# Altium footprint library Activos.PcbLib: 60 footprints (part 3 of 4)
Each footprint in its own frame and in the unit in brackets; x right, y up, seen from the top. Pads: shape width x height; smd on the part's side, far side on the other; paste and mask are expansions set on the pad; w line width, h text height; cw(c..) or ccw(c..) is an arc to the next point about the centre after c.
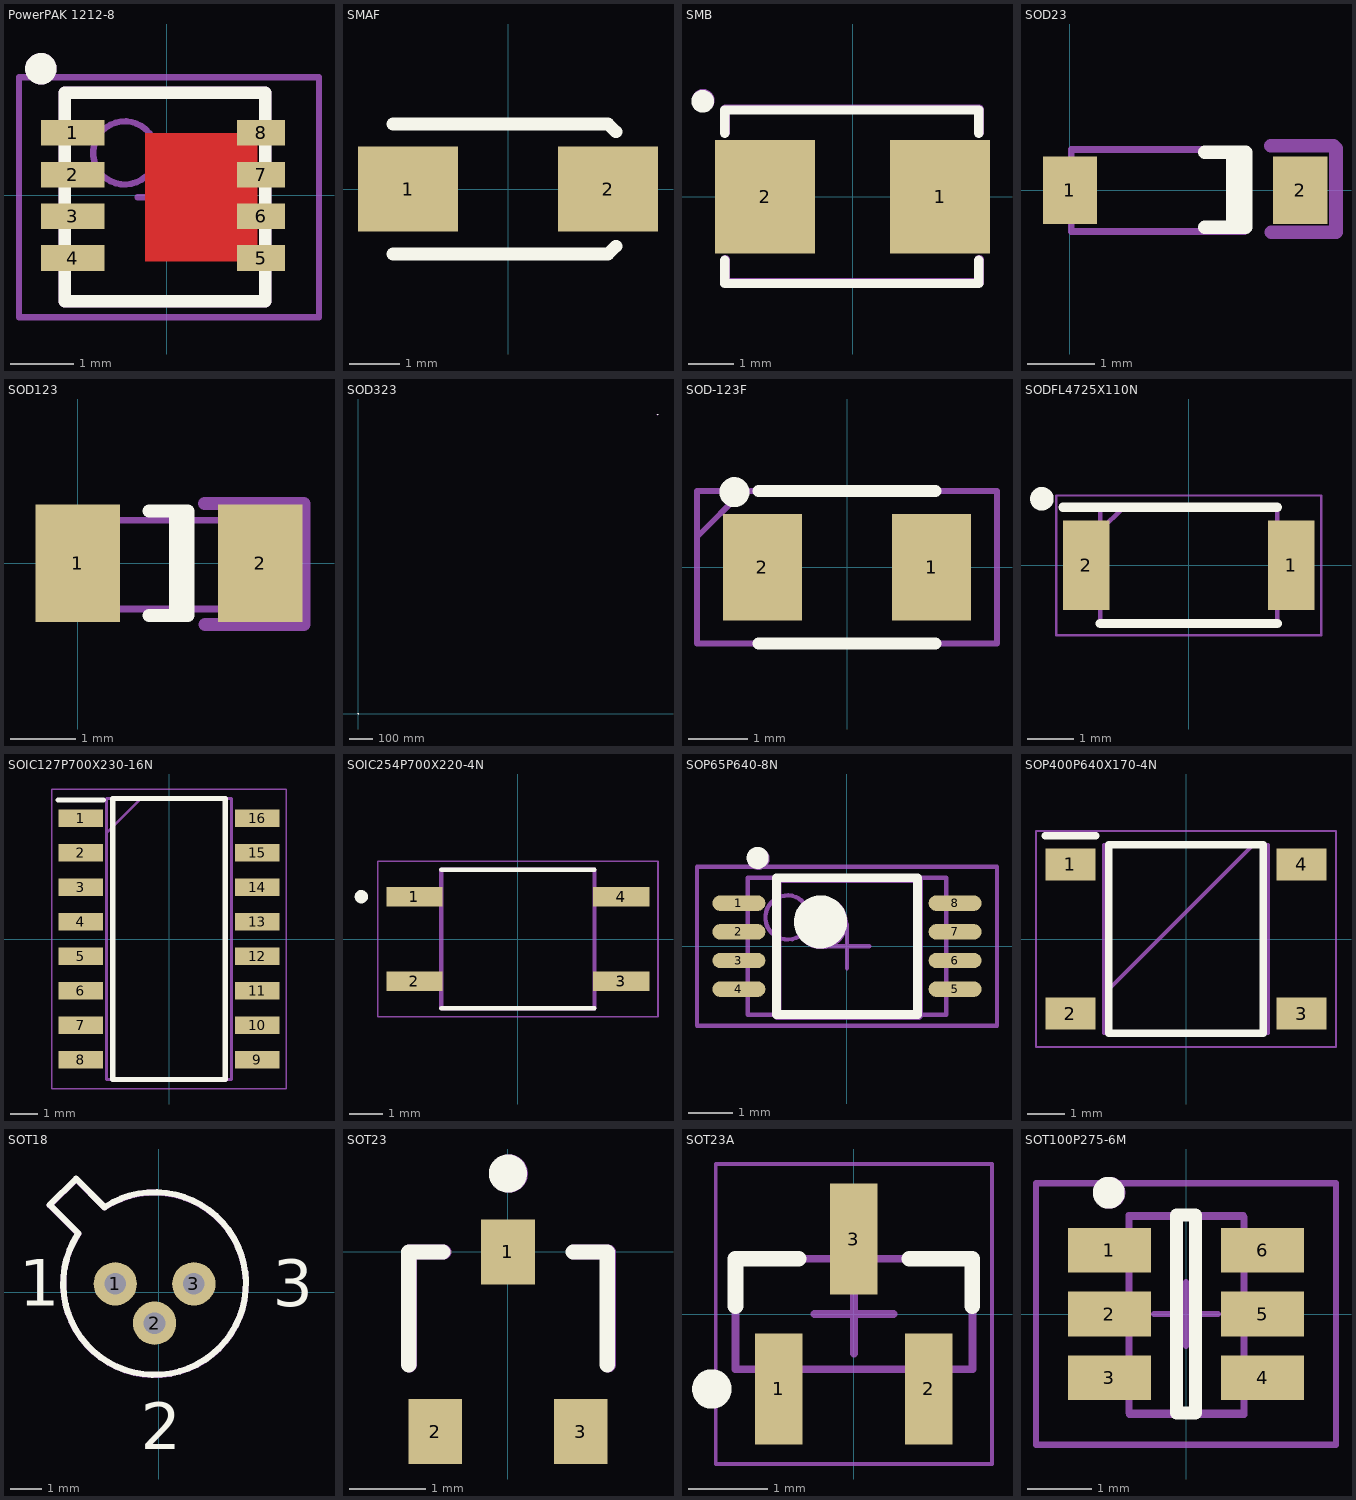
[diagram p2: the footprints below, top view; thin cyan lines are the x and y axes]

## PowerPAK 1212-8 [mm]
height 2.65
pads (8):
  rect 1x0.405 smd: 1(-1.49,0.99) 2(-1.49,0.33) 3(-1.49,-0.33) 4(-1.49,-0.99)
  rect 0.76x0.405 smd: 5(1.49,-0.99) 6(1.49,-0.33) 7(1.49,0.33) 8(1.49,0.99)
Top Layer:
  rectangle: -0.347,-1.042 1.431,0.99
Top Overlay:
  circle w0.25: c-1.996,2.006 r0.125
  lines w0.2: -1.617,-1.676 1.558,-1.676 1.558,1.624 -1.617,1.624 -1.617,-1.676
Mechanical 13:
  circle w0.1: c-0.667,0.674 r0.5
  lines w0.1: -1.617,-1.677 1.558,-1.677 1.558,1.625 -1.617,1.625 -1.617,-1.677
Mechanical 15:
  lines w0.1: -0.467,-0.026 0.533,-0.026 ; 0.033,-0.526 0.033,0.474 ; -2.342,-1.926 -2.342,1.874 2.408,1.874 2.408,-1.926 -2.342,-1.926
Mechanical 29:
  circle w0.25: c-1.996,2.006 r0.125
  lines w0.2: -1.617,-1.676 -1.617,1.624 1.558,1.624 1.558,-1.676 -1.617,-1.676
  text "'.Designator'" at -1.343,-0.172 h0.5
3D body "POWERPAK 1212-8.STEP": height 1.12, standoff 0, extent -1.552,-1.721 1.718,1.679

## SMAF [mm]
height 1
pads (2):
  rect 2x1.7 smd: 1(-2,0) 2(2,0)
Top Overlay:
  lines w0.254: -2.3,-1.3 2,-1.3 2.002,-1.3 2.159,-1.143 ; -2.3,1.3 2,1.3 2.002,1.3 2.159,1.143
3D body "User Library-DO-214AD.step": height 1, standoff 0, extent -2.35,-1.25 2.35,1.25

## SMB [mm]
pads (2):
  rect 2.2x2.5 smd: 1(1.925,0) 2(-1.925,0)
Top Overlay:
  circle w0.25: c-3.3,2.1 r0.125
  lines w0.2: -2.814,-1.397 -2.814,-1.905 2.774,-1.905 2.774,-1.397 ; -2.814,1.397 -2.814,1.905 2.774,1.905 2.774,1.397
Mechanical 29:
  circle w0.25: c-3.29,2.12 r0.125
  lines w0.2: -2.804,-1.377 -2.804,-1.885 2.784,-1.885 2.784,-1.377 ; -2.804,1.417 -2.804,1.925 2.784,1.925 2.784,1.417
  text "'.Designator'" at -2.49,-0.11 h0.5
3D body "DO-214AA(SMB).step": height 2.6, standoff -0.05, extent -2.694,-1.975 2.894,1.975

## SOD23 [mm]
pads (2):
  rect 0.8x1 smd: 1(0,0) 2(3.4,0)
Top Overlay:
  lines w0.2: 1.992,0.56 2.592,0.56 2.592,-0.54 ; 2.402,0.5 2.402,-0.55 1.992,-0.55 2.592,-0.55
Mechanical 29:
  lines w0.1: 0.02,-0.61 0.02,0.6 2.582,0.6 2.582,-0.61 0.02,-0.61
  lines w0.2: 2.964,0.657 3.89,0.657 3.927,0.62 3.927,-0.623 2.974,-0.623
3D body "SOD123.step": height 1.27, standoff 0, extent -0.18,-0.8 3.52,0.8

## SOD123 [mm]
pads (2):
  rect 1.3x1.8 smd: 1(0,0) 2(2.8,0)
Top Overlay:
  lines w0.2: 1.09,-0.799 1.69,-0.799 1.69,0.801 1.09,0.801 ; 1.5,-0.799 1.5,0.801
Mechanical 29:
  lines w0.1: -0.26,-0.7 -0.26,0.66 3.04,0.66 3.04,-0.7 -0.26,-0.7
  lines w0.2: 1.944,0.92 3.47,0.92 3.47,-0.94 1.954,-0.94
3D body "SOD123.step": height 1.27, standoff 0, extent -0.463,-0.776 3.237,0.824

## SOD323 [mm]
pads (4):
  rect 1x0.8 smd: A(1.3,0) A(1271.3,1270.01) K(-1.3,0) K(1268.7,1270.01)
Top Overlay:
  lines w0.203: -0.51,0.397 -0.28,0.397 ; -0.273,-0.4 -0.273,0.4 ; -0.27,-0.403 -0.04,-0.403 ; 1269.49,1270.407 1269.72,1270.407 ; 1269.727,1269.61 1269.727,1270.41 ; 1269.73,1269.607 1269.96,1269.607 ; -0.173,0 0.507,-0.4 0.507,0.4 -0.173,0 ; 1269.827,1270.01 1270.507,1269.61 1270.507,1270.41 1269.827,1270.01
Mechanical 16:
  rectangle: 1268.7,1269.78 1269.23,1270.22
  rectangle: 1270.78,1269.78 1271.31,1270.22
  rectangle: 0.78,-0.23 1.31,0.21
  rectangle: -1.3,-0.23 -0.77,0.21
  lines w0.152: -0.837,-0.581 -0.837,0.581 ; -0.821,-0.588 0.801,-0.588 ; -0.821,0.588 0.801,0.588 ; -0.707,-0.581 -0.707,0.581 ; 0.833,-0.581 0.833,0.591 ; 1269.163,1269.429 1269.163,1270.591 ; 1269.179,1269.422 1270.801,1269.422 ; 1269.179,1270.598 1270.801,1270.598 ; 1269.293,1269.429 1269.293,1270.591 ; 1270.833,1269.429 1270.833,1270.601
Mechanical 29:
  lines w0.203: -0.51,0.397 -0.28,0.397 ; -0.273,-0.4 -0.273,0.4 ; -0.27,-0.403 -0.04,-0.403 ; -0.173,0 0.507,0.4 0.507,-0.4 -0.173,0
  text "'.Designator'" at -0.68,0.78 h0.5

## SOD-123F [mm]
height 1.08
pads (2):
  rect 1.34x1.8 smd: 1(1.43,0) 2(-1.43,0)
Top Overlay:
  circle w0.254: c-1.905,1.27 r0.127
  lines w0.2: -1.5,-1.288 1.5,-1.288 ; -1.5,1.288 1.5,1.288
Mechanical 15:
  lines w0.1: -2.538,0.512 -1.762,1.288 ; -2.538,-1.288 2.538,-1.288 2.538,1.288 -2.538,1.288 -2.538,-1.288
3D body "User Library-SOD123-1.step": height 1.18, standoff 0, extent -1.95,-0.9 1.95,0.9

## SODFL4725X110N [mm] "SOD-128-2"
pads (2):
  rect 1x1.93 smd: 1(2.2,0) 2(-2.2,0)
Top Overlay:
  circle w0.254: c-3.155,1.43 r0.127
  lines w0.2: -2.7,1.25 1.9,1.25 ; -1.9,-1.25 1.9,-1.25
Mechanical 13:
  lines w0.1: -1.9,0.75 -1.4,1.25 ; -1.9,-1.25 -1.9,1.25 1.9,1.25 1.9,-1.25 -1.9,-1.25
Mechanical 15:
  lines w0.05: -2.85,-1.5 -2.85,1.5 2.85,1.5 2.85,-1.5 -2.85,-1.5
3D body "PMEG4050EP,115.stp": height 1.1, standoff 0, extent -2.35,-1.25 2.35,1.25

## SOIC127P700X230-16N [mm]
pads (16):
  rect 1.65x0.65 smd: 1(-3.25,4.445) 2(-3.25,3.175) 3(-3.25,1.905) 4(-3.25,0.635) 5(-3.25,-0.635) 6(-3.25,-1.905) 7(-3.25,-3.175) 8(-3.25,-4.445) 9(3.25,-4.445) 10(3.25,-3.175) 11(3.25,-1.905) 12(3.25,-0.635) 13(3.25,0.635) 14(3.25,1.905) 15(3.25,3.175) 16(3.25,4.445)
Top Overlay:
  lines w0.2: -4.075,5.12 -2.425,5.12 ; -2.075,-5.175 -2.075,5.175 2.075,5.175 2.075,-5.175 -2.075,-5.175
Mechanical 13:
  lines w0.1: -2.3,3.905 -1.03,5.175 ; -2.3,-5.175 -2.3,5.175 2.3,5.175 2.3,-5.175 -2.3,-5.175
Mechanical 15:
  lines w0.05: -4.325,-5.525 -4.325,5.525 4.325,5.525 4.325,-5.525 -4.325,-5.525
3D body "TLP291-4_GB.stp": height 2.3, standoff 0, extent -3.5,-5.175 3.5,5.175

## SOIC254P700X220-4N [mm]
height 2.1
pads (4):
  rect 1.69x0.59 smd: 1(-3.105,1.27) 2(-3.105,-1.27) 3(3.105,-1.27) 4(3.105,1.27)
Top Overlay:
  circle w0.2: c-4.699,1.27 r0.1
  lines w0.127: -2.3,-2.08 2.3,-2.08 ; -2.3,2.08 2.3,2.08
Mechanical 13:
  lines w0.127: -2.3,-2.08 -2.3,2.08 ; -2.3,-2.08 2.3,-2.08 ; -2.3,-2.08 -2.3,2.08 ; -2.3,-2.08 2.3,-2.08 ; -2.3,2.08 2.3,2.08 ; -2.3,2.08 2.3,2.08 ; 2.3,-2.08 2.3,2.08 ; 2.3,-2.08 2.3,2.08
Mechanical 15:
  lines w0.05: -4.21,-2.33 -4.21,2.33 4.21,2.33 4.21,-2.33 -4.21,-2.33
3D body "User Library-so4-1.step": height 2.1, standoff 0, extent -3.5,-1.925 3.5,1.925

## SOP65P640-8N [mm] "SOP, 8-Leads, Body 3x4.4mm, Pitch 0.65mm, IPC Medium Density"
height 2
pads (8):
  oval 1.2x0.35 smd: 1(-2.45,0.975) 2(-2.45,0.325) 3(-2.45,-0.325) 4(-2.45,-0.975) 5(2.45,-0.975) 6(2.45,-0.325) 7(2.45,0.325) 8(2.45,0.975)
Top Overlay:
  circle w0.25: c-2.025,2 r0.125
  circle w0.6: c-0.6,0.55 r0.3
  lines w0.2: -1.6,-1.55 -1.6,1.55 1.6,1.55 1.6,-1.55 -1.6,-1.55
Mechanical 13:
  circle w0.1: c-1.35,0.65 r0.5
  lines w0.1: -2.25,-1.55 -2.25,1.55 2.25,1.55 2.25,-1.55 -2.25,-1.55
Mechanical 15:
  lines w0.1: -0.5,0 0.5,0 ; 0,-0.5 0,0.5 ; -3.4,-1.8 -3.4,1.8 3.4,1.8 3.4,-1.8 -3.4,-1.8
Mechanical 29:
  circle w0.6: c-0.58,0.53 r0.3
  circle w0.25: c-2.005,1.98 r0.125
  lines w0.2: -1.58,-1.57 1.62,-1.57 1.62,1.53 -1.58,1.53 -1.58,-1.57
  text "'.Designator'" at -1.305,-1.264 h0.5
3D body "EMSOP-8.step": height 1.09, standoff -0.01, extent -2.5,-1.5 2.5,1.5

## SOP400P640X170-4N [mm]
pads (4):
  rect 1.35x0.85 smd: 1(-3.1,2) 2(-3.1,-2) 3(3.1,-2) 4(3.1,2)
Top Overlay:
  lines w0.2: -3.775,2.775 -2.425,2.775 ; -2.075,-2.525 2.075,-2.525 2.075,2.525 -2.075,2.525 -2.075,-2.525
Mechanical 15:
  lines w0.1: -2.2,-1.475 1.8,2.525 ; -2.2,-2.525 2.2,-2.525 2.2,2.525 -2.2,2.525 -2.2,-2.525
Mechanical 16:
  lines w0.05: -4.025,-2.9 4.025,-2.9 4.025,2.9 -4.025,2.9 -4.025,-2.9
3D body "User Library-ABS10.step": height 1.45, standoff 0, extent -3.15,-2.6 3.25,2.5

## SOT18 [mm]
pads (3):
  round 1.4 hole 0.7: 1(-1.399,0.267) 2(-0.129,-1.003) 3(1.141,0.267)
Top Overlay:
  lines w0.2: -3.515,2.814 -2.666,3.663 -1.747,2.743 cw(c-0.129,0.277) -2.596,1.895 -3.515,2.814
  text "1" at -4.509,-0.442 h1.5
  text "2" at -0.572,-5.078 h1.5
  text "3" at 3.683,-0.465 h1.5
Mechanical 29:
  lines w0.2: -3.515,2.804 -2.596,1.885 ccw(c-0.129,0.267) -1.747,2.733 -2.666,3.653 -3.515,2.804
  text "'.Designator'" at -2.72,-0.04 h0.5
  text "3" at 3.683,-0.475 h1.5
  text "2" at -0.572,-5.088 h1.5
  text "1" at -4.509,-0.452 h1.5
3D body "SOT18.STEP": height 2, standoff -7.04, extent -2.977,-2.54 2.469,2.91

## SOT23 [mm]
pads (3):
  rect 0.7x0.85 smd: 1(0,0) 2(-0.95,-2.35) 3(0.95,-2.35)
Top Overlay:
  circle w0.25: c0,1.025 r0.125
  lines w0.2: -1.3,-1.475 -1.3,0 -0.85,0 ; 0.85,0 1.3,0 1.3,-1.475
Mechanical 29:
  circle w0.25: c0.01,1.025 r0.125
  lines w0.2: -1.29,-1.475 -1.29,0 -0.84,0 ; 0.86,0 1.31,0 1.31,-1.475
3D body "sot23-3.step": height 1, standoff -0.02, extent -1.458,-2.356 1.462,0.12

## SOT23A [mm] "SOT23 NXP"
pads (3):
  rect 0.6x1.4 smd: 1(-0.95,-0.95) 2(0.95,-0.95) 3(0,0.95)
Top Overlay:
  circle w0.25: c-1.8,-0.95 r0.125
  lines w0.2: -1.5,0.1 -1.5,0.7 -0.7,0.7 ; 0.7,0.7 1.5,0.7 1.5,0.1
Mechanical 13:
  lines w0.1: -1.5,-0.7 1.5,-0.7 1.5,0.7 -1.5,0.7 -1.5,-0.7
Mechanical 15:
  lines w0.05: -1.75,-1.9 1.75,-1.9 1.75,1.9 -1.75,1.9 -1.75,-1.9
  lines w0.1: -0.5,0 0.5,0 ; 0,-0.5 0,0.5
3D body "sot23-3.step": height 1, standoff -0.02, extent -1.46,-1.22 1.46,1.256

## SOT100P275-6M [mm]
pads (6):
  rect 1.3x0.7 smd: 1(-1.2,1) 2(-1.2,0) 3(-1.2,-1) 4(1.2,-1) 5(1.2,0) 6(1.2,1)
Top Overlay:
  circle w0.25: c-1.21,1.9 r0.125
  lines w0.2: -0.15,-1.55 -0.15,1.55 0.15,1.55 0.15,-1.55 -0.15,-1.55
Mechanical 13:
  lines w0.1: -0.9,-1.55 0.9,-1.55 0.9,1.55 -0.9,1.55 -0.9,-1.55
Mechanical 15:
  lines w0.1: -0.5,0 0.5,0 ; 0,-0.5 0,0.5 ; -2.35,-2.05 2.35,-2.05 2.35,2.05 -2.35,2.05 -2.35,-2.05
Mechanical 29:
  circle w0.25: c-1.2,1.9 r0.125
  lines w0.1: -0.89,-1.58 -0.89,1.52 0.91,1.52 0.91,-1.58 -0.89,-1.58
  text "'.Designator'" at 0.24,-1.41 h0.5
3D body "SOT23-6.step": height 1.3, standoff 0, extent -1.5,-1.5 1.5,1.5